# EAGLE library part BMA253 (library CharIoT)
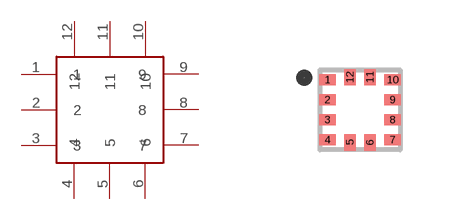
[diagram p8: symbol with the pads of LGA-12; footprint LGA-12]

Designator prefix -

## BMA253  [LGA-12]
1  1
2  2
3  3  pwr
4  4
5  5
6  6
7  7  pwr
8  8  pwr
9  9  pwr
10  10
11  11
12  12

## Footprint LGA-12 (pad centres in mm)
smd 0.41 x 0.28: 1 -0.815,0.75; 2 -0.815,0.25; 3 -0.815,-0.25; 4 -0.815,-0.75; 7 0.815,-0.75; 8 0.815,-0.25; 9 0.815,0.25; 10 0.815,0.75
smd 0.28 x 0.41: 5 -0.25,-0.815; 6 0.25,-0.815; 11 0.25,0.815; 12 -0.25,0.815